# Altium integrated library TI Power Management Step-Down Regulator.IntLib: 531 symbols (part 14 of 32)
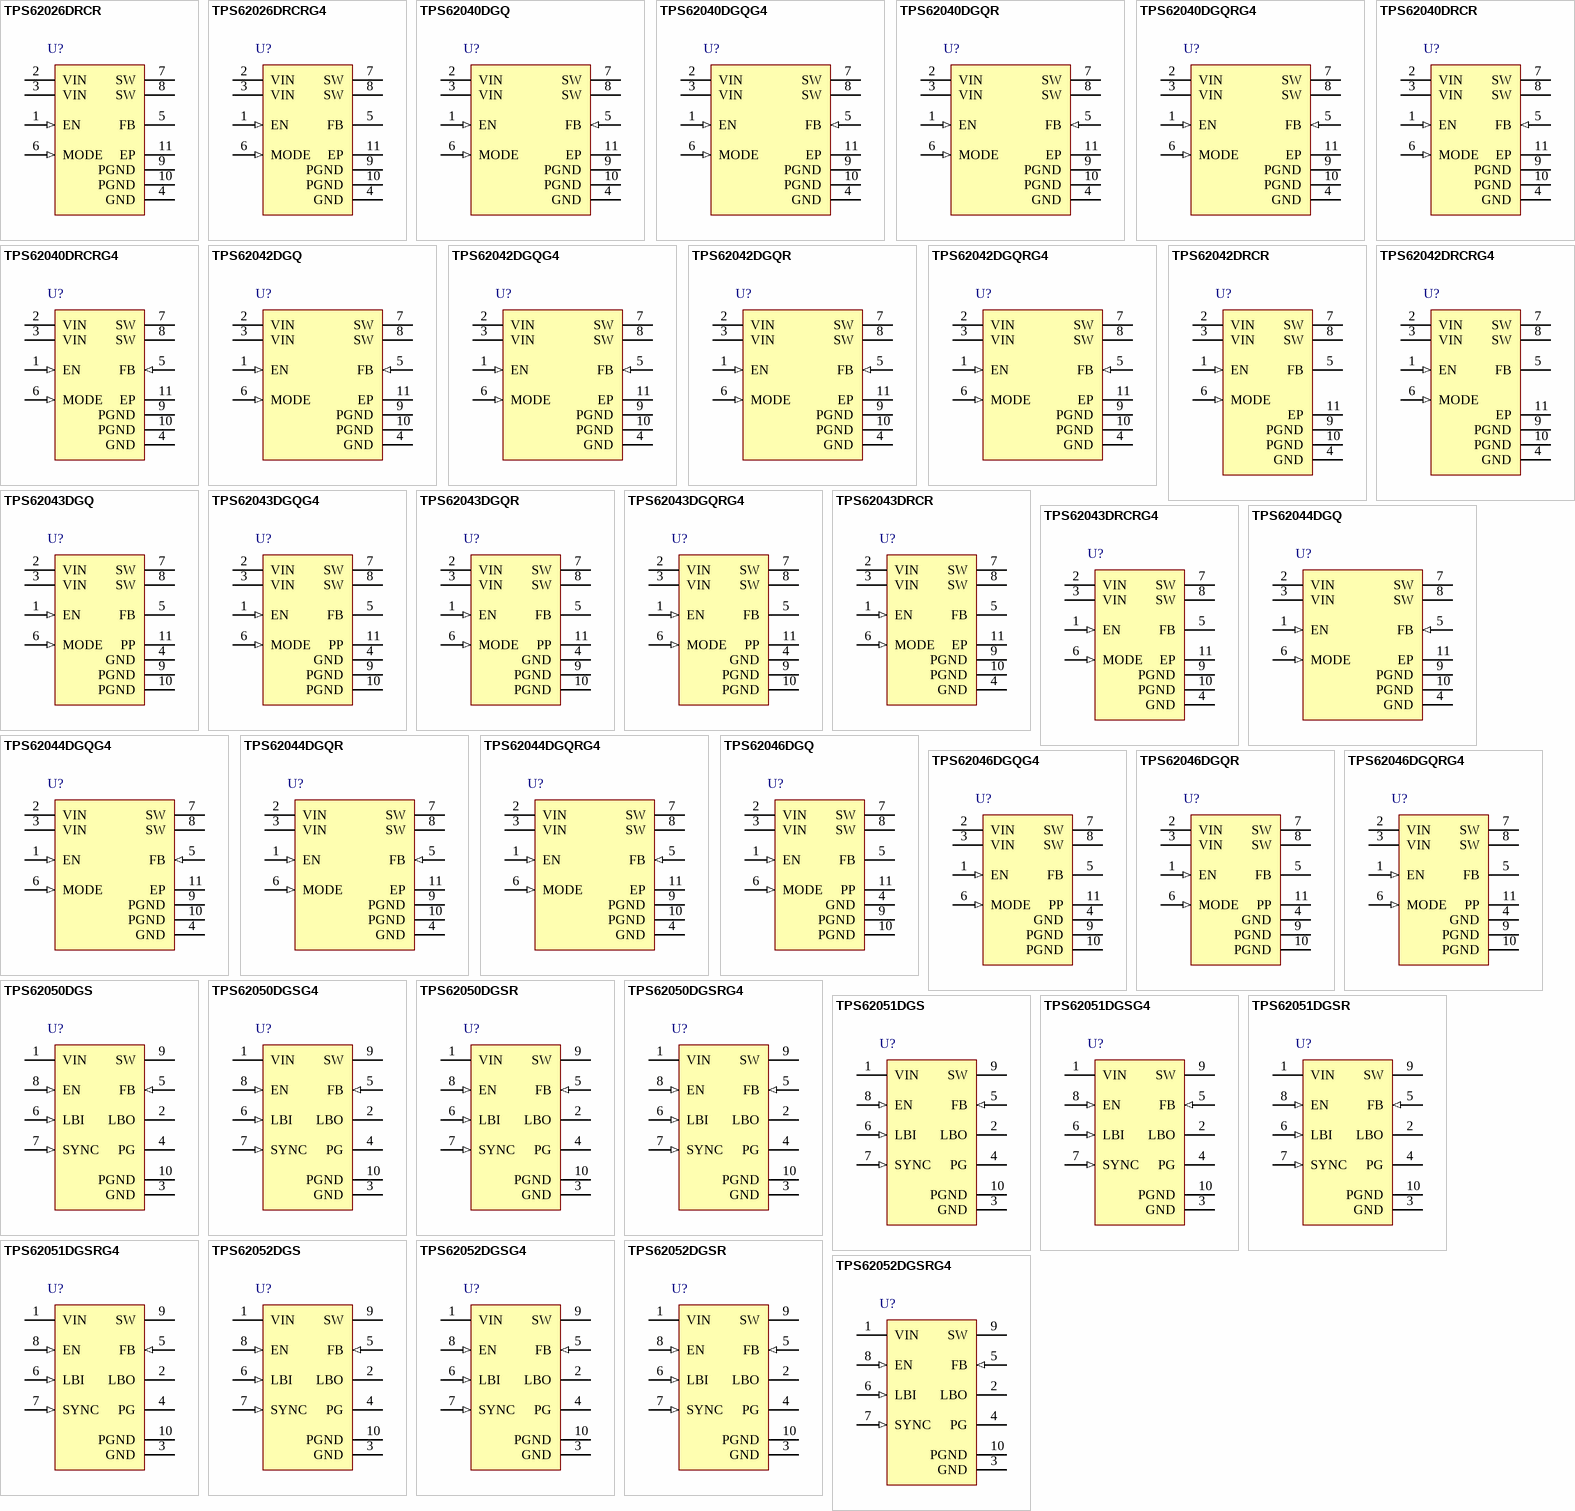
[diagram p31: symbols TPS62026DRCR to TPS62052DGSRG4]

## TPS62042DGQ
designator U?
Buck Step Down Regulator with 2.5 to 6 V Input and 1.5 V Output, -40 to 85 degC, 10-Pin MSOP-PowerPAD (DGQ), Green (RoHS & no Sb/Br); PartNumber: TPS62042DGQ; Manufacturer: Texas Instruments; Duty Cycle(Max)(%): 100; Iout(Max)(A): 1.2; Iq(Typ)(mA): 0.018; Preset Vout(V): 1.5; Rating: Catalog; Regulated Outputs(#): 1; SubFamily: Step-Down Regulator; Switch Current Limit(Typ)(A): 2; Vin(Max)(V): 6; Vin(Min)(V): 2.5; DatasheetVersion: SLVS463B; PackageVersion: revF, Nov-2011; PackageReference: DGQ10-1675X1445TP; PackageDescription: 10-Pin PowerPAD Plastic Small Outline 0.5 mm Pitch, Exposed Pad; Supplier 1: Digi-Key; Supplier Part Number 1: 296-27022-5-ND; Supplier 2: Farnell; Supplier Part Number 2: 8457921; Supplier 3: Newark; Supplier Part Number 3: 73H4659; Supplier 4: Mouser; Supplier Part Number 4: 595-TPS62042DGQ; Eco-Plan: Green (RoHS & no Sb/Br); Topology: Buck; Vout(Max)(V): 1.5; Vout(Min)(V): 1.5; Mounting Technology: Surface Mount; Code_JEDEC: MO-187-BA-T; ComponentLink1Description: Datasheet; ComponentLink1URL: http://www.ti.com/general/docs/lit/getliterature.tsp?genericPartNumber=TPS62042&fileType=pdf; ComponentLink2Description: URL Link1; ComponentLink2URL: Samples URL:http://www.ti.com/product/tps62042#samples
footprint DGQ10-1675X1445TP_N (TSSOP, 10-Leads, Body 3x3mm, Pitch 0.5mm, Thermal Pad 1.88x1.57mm, IPC Medium Density)
footprint DGQ10-1675X1445TP_L (TSSOP, 10-Leads, Body 3x3mm, Pitch 0.5mm, Thermal Pad 1.88x1.57mm, IPC High Density)
footprint DGQ10-1675X1445TP_M (TSSOP, 10-Leads, Body 3x3mm, Pitch 0.5mm, Thermal Pad 1.88x1.57mm, IPC Low Density)
pins: 1 EN (in) "Enable. Pulling EN to ground forces the device into shutdown mode. Pulling EN to VI enables the device. EN should not be left floating and must be terminated.", 2 VIN (power) "Supply voltage input", 3 VIN (power) "Supply voltage input", 4 GND (power) "Analog ground", 5 FB (in) "Feedback pin. Connect FB directly to the output if the fixed output voltage version is used. For the adjustable version an external resistor divider is connected to this pin. The internal voltage divider is disabled for the (See Datasheet)", 6 MODE (in) "Pulling the MODE pin high allows the device to be forced into fixed frequency operation. Pulling the MODE pin to low enables the power save mode where the device operates in fixed frequency PWM mode at high load currents and (See Datasheet)", 7 SW (power) "This is the switch pin of the converter and is connected to the drain of the internal power MOSFETs", 8 SW (power) "This is the switch pin of the converter and is connected to the drain of the internal power MOSFETs", 9 PGND (power) "Power ground", 10 PGND (power) "Power ground", 11 EP (power) "Exposed Thermal Pad"

## TPS62042DGQG4
designator U?
Buck Step Down Regulator with 2.5 to 6 V Input and 1.5 V Output, -40 to 85 degC, 10-Pin MSOP-PowerPAD (DGQ), Green (RoHS & no Sb/Br); PartNumber: TPS62042DGQG4; Manufacturer: Texas Instruments; Duty Cycle(Max)(%): 100; Iout(Max)(A): 1.2; Iq(Typ)(mA): 0.018; Preset Vout(V): 1.5; Rating: Catalog; Regulated Outputs(#): 1; SubFamily: Step-Down Regulator; Switch Current Limit(Typ)(A): 2; Vin(Max)(V): 6; Vin(Min)(V): 2.5; DatasheetVersion: SLVS463B; PackageVersion: revF, Nov-2011; PackageReference: DGQ10-1675X1445TP; PackageDescription: 10-Pin PowerPAD Plastic Small Outline 0.5 mm Pitch, Exposed Pad; Supplier 1: Digi-Key; Supplier Part Number 1: TPS62042DGQG4-ND; Supplier 2: Newark; Supplier Part Number 2: 71J8197; Supplier 3: Mouser; Supplier Part Number 3: 595-TPS62042DGQG4; Eco-Plan: Green (RoHS & no Sb/Br); Topology: Buck; Vout(Max)(V): 1.5; Vout(Min)(V): 1.5; Mounting Technology: Surface Mount; Code_JEDEC: MO-187-BA-T; ComponentLink1Description: Datasheet; ComponentLink1URL: http://www.ti.com/general/docs/lit/getliterature.tsp?genericPartNumber=TPS62042&fileType=pdf; ComponentLink2Description: URL Link1; ComponentLink2URL: Samples URL:http://www.ti.com/product/tps62042#samples
footprint DGQ10-1675X1445TP_N (TSSOP, 10-Leads, Body 3x3mm, Pitch 0.5mm, Thermal Pad 1.88x1.57mm, IPC Medium Density)
footprint DGQ10-1675X1445TP_L (TSSOP, 10-Leads, Body 3x3mm, Pitch 0.5mm, Thermal Pad 1.88x1.57mm, IPC High Density)
footprint DGQ10-1675X1445TP_M (TSSOP, 10-Leads, Body 3x3mm, Pitch 0.5mm, Thermal Pad 1.88x1.57mm, IPC Low Density)
pins: 1 EN (in) "Enable. Pulling EN to ground forces the device into shutdown mode. Pulling EN to VI enables the device. EN should not be left floating and must be terminated.", 2 VIN (power) "Supply voltage input", 3 VIN (power) "Supply voltage input", 4 GND (power) "Analog ground", 5 FB (in) "Feedback pin. Connect FB directly to the output if the fixed output voltage version is used. For the adjustable version an external resistor divider is connected to this pin. The internal voltage divider is disabled for the (See Datasheet)", 6 MODE (in) "Pulling the MODE pin high allows the device to be forced into fixed frequency operation. Pulling the MODE pin to low enables the power save mode where the device operates in fixed frequency PWM mode at high load currents and (See Datasheet)", 7 SW (power) "This is the switch pin of the converter and is connected to the drain of the internal power MOSFETs", 8 SW (power) "This is the switch pin of the converter and is connected to the drain of the internal power MOSFETs", 9 PGND (power) "Power ground", 10 PGND (power) "Power ground", 11 EP (power) "Exposed Thermal Pad"

## TPS62042DGQR
designator U?
Buck Step Down Regulator with 2.5 to 6 V Input and 1.5 V Output, -40 to 85 degC, 10-Pin MSOP-PowerPAD (DGQ), Green (RoHS & no Sb/Br); PartNumber: TPS62042DGQR; Manufacturer: Texas Instruments; Duty Cycle(Max)(%): 100; Iout(Max)(A): 1.2; Iq(Typ)(mA): 0.018; Preset Vout(V): 1.5; Rating: Catalog; Regulated Outputs(#): 1; SubFamily: Step-Down Regulator; Switch Current Limit(Typ)(A): 2; Vin(Max)(V): 6; Vin(Min)(V): 2.5; DatasheetVersion: SLVS463B; PackageVersion: revF, Nov-2011; PackageReference: DGQ10-1675X1445TP; PackageDescription: 10-Pin PowerPAD Plastic Small Outline 0.5 mm Pitch, Exposed Pad; Supplier 1: Digi-Key; Supplier Part Number 1: 296-15220-2-ND; Supplier 2: Digi-Key; Supplier Part Number 2: 296-15220-1-ND; Supplier 3: Digi-Key; Supplier Part Number 3: 296-15220-6-ND; Supplier 4: Newark; Supplier Part Number 4: 73H4660; Supplier 5: Mouser; Supplier Part Number 5: 595-TPS62042DGQR; Eco-Plan: Green (RoHS & no Sb/Br); Topology: Buck; Vout(Max)(V): 1.5; Vout(Min)(V): 1.5; Mounting Technology: Surface Mount; Code_JEDEC: MO-187-BA-T; ComponentLink1Description: Datasheet; ComponentLink1URL: http://www.ti.com/general/docs/lit/getliterature.tsp?genericPartNumber=TPS62042&fileType=pdf; ComponentLink2Description: URL Link1; ComponentLink2URL: Samples URL:http://www.ti.com/product/tps62042#samples
footprint DGQ10-1675X1445TP_N (TSSOP, 10-Leads, Body 3x3mm, Pitch 0.5mm, Thermal Pad 1.88x1.57mm, IPC Medium Density)
footprint DGQ10-1675X1445TP_L (TSSOP, 10-Leads, Body 3x3mm, Pitch 0.5mm, Thermal Pad 1.88x1.57mm, IPC High Density)
footprint DGQ10-1675X1445TP_M (TSSOP, 10-Leads, Body 3x3mm, Pitch 0.5mm, Thermal Pad 1.88x1.57mm, IPC Low Density)
pins: 1 EN (in) "Enable. Pulling EN to ground forces the device into shutdown mode. Pulling EN to VI enables the device. EN should not be left floating and must be terminated.", 2 VIN (power) "Supply voltage input", 3 VIN (power) "Supply voltage input", 4 GND (power) "Analog ground", 5 FB (in) "Feedback pin. Connect FB directly to the output if the fixed output voltage version is used. For the adjustable version an external resistor divider is connected to this pin. The internal voltage divider is disabled for the (See Datasheet)", 6 MODE (in) "Pulling the MODE pin high allows the device to be forced into fixed frequency operation. Pulling the MODE pin to low enables the power save mode where the device operates in fixed frequency PWM mode at high load currents and (See Datasheet)", 7 SW (power) "This is the switch pin of the converter and is connected to the drain of the internal power MOSFETs", 8 SW (power) "This is the switch pin of the converter and is connected to the drain of the internal power MOSFETs", 9 PGND (power) "Power ground", 10 PGND (power) "Power ground", 11 EP (power) "Exposed Thermal Pad"

## TPS62042DGQRG4
designator U?
Buck Step Down Regulator with 2.5 to 6 V Input and 1.5 V Output, -40 to 85 degC, 10-Pin MSOP-PowerPAD (DGQ), Green (RoHS & no Sb/Br); PartNumber: TPS62042DGQRG4; Manufacturer: Texas Instruments; Duty Cycle(Max)(%): 100; Iout(Max)(A): 1.2; Iq(Typ)(mA): 0.018; Preset Vout(V): 1.5; Rating: Catalog; Regulated Outputs(#): 1; SubFamily: Step-Down Regulator; Switch Current Limit(Typ)(A): 2; Vin(Max)(V): 6; Vin(Min)(V): 2.5; DatasheetVersion: SLVS463B; PackageVersion: revF, Nov-2011; PackageReference: DGQ10-1675X1445TP; PackageDescription: 10-Pin PowerPAD Plastic Small Outline 0.5 mm Pitch, Exposed Pad; Supplier 1: Digi-Key; Supplier Part Number 1: TPS62042DGQRG4-ND; Supplier 2: Newark; Supplier Part Number 2: 65J6918; Supplier 3: Mouser; Supplier Part Number 3: 595-TPS62042DGQRG4; Eco-Plan: Green (RoHS & no Sb/Br); Topology: Buck; Vout(Max)(V): 1.5; Vout(Min)(V): 1.5; Mounting Technology: Surface Mount; Code_JEDEC: MO-187-BA-T; ComponentLink1Description: Datasheet; ComponentLink1URL: http://www.ti.com/general/docs/lit/getliterature.tsp?genericPartNumber=TPS62042&fileType=pdf; ComponentLink2Description: URL Link1; ComponentLink2URL: Samples URL:http://www.ti.com/product/tps62042#samples
footprint DGQ10-1675X1445TP_N (TSSOP, 10-Leads, Body 3x3mm, Pitch 0.5mm, Thermal Pad 1.88x1.57mm, IPC Medium Density)
footprint DGQ10-1675X1445TP_L (TSSOP, 10-Leads, Body 3x3mm, Pitch 0.5mm, Thermal Pad 1.88x1.57mm, IPC High Density)
footprint DGQ10-1675X1445TP_M (TSSOP, 10-Leads, Body 3x3mm, Pitch 0.5mm, Thermal Pad 1.88x1.57mm, IPC Low Density)
pins: 1 EN (in) "Enable. Pulling EN to ground forces the device into shutdown mode. Pulling EN to VI enables the device. EN should not be left floating and must be terminated.", 2 VIN (power) "Supply voltage input", 3 VIN (power) "Supply voltage input", 4 GND (power) "Analog ground", 5 FB (in) "Feedback pin. Connect FB directly to the output if the fixed output voltage version is used. For the adjustable version an external resistor divider is connected to this pin. The internal voltage divider is disabled for the (See Datasheet)", 6 MODE (in) "Pulling the MODE pin high allows the device to be forced into fixed frequency operation. Pulling the MODE pin to low enables the power save mode where the device operates in fixed frequency PWM mode at high load currents and (See Datasheet)", 7 SW (power) "This is the switch pin of the converter and is connected to the drain of the internal power MOSFETs", 8 SW (power) "This is the switch pin of the converter and is connected to the drain of the internal power MOSFETs", 9 PGND (power) "Power ground", 10 PGND (power) "Power ground", 11 EP (power) "Exposed Thermal Pad"

## TPS62042DRCR
designator U?
Buck Step Down Regulator with 2.5 to 6 V Input and 1.5 V Output, -40 to 85 degC, 10-Pin SON (DRC), Green (RoHS & no Sb/Br); PartNumber: TPS62042DRCR; Manufacturer: Texas Instruments; Duty Cycle(Max)(%): 100; Iout(Max)(A): 1.2; Iq(Typ)(mA): 0.018; Preset Vout(V): 1.5; Rating: Catalog; Regulated Outputs(#): 1; SubFamily: Step-Down Regulator; Switch Current Limit(Typ)(A): 2; Vin(Max)(V): 6; Vin(Min)(V): 2.5; DatasheetVersion: SLVS463B; PackageVersion: revL, Sep-2011; PackageReference: DRC10-2400X1650TP; PackageDescription: 10-Pin Plastic Small Outline No-Lead, 3 x 3 x 1 mm Body, 0.5 mm Pitch, Exposed Pad; Supplier 1: Digi-Key; Supplier Part Number 1: 296-15899-2-ND; Supplier 2: Digi-Key; Supplier Part Number 2: 296-15899-1-ND; Supplier 3: Digi-Key; Supplier Part Number 3: 296-15899-6-ND; Supplier 4: Newark; Supplier Part Number 4: 87H2902; Supplier 5: Mouser; Supplier Part Number 5: 595-TPS62042DRCR; Eco-Plan: Green (RoHS & no Sb/Br); Topology: Buck; Vout(Max)(V): 1.5; Vout(Min)(V): 1.5; Mounting Technology: Surface Mount; ComponentLink1Description: Datasheet; ComponentLink1URL: http://www.ti.com/general/docs/lit/getliterature.tsp?genericPartNumber=TPS62042&fileType=pdf; ComponentLink2Description: URL Link1; ComponentLink2URL: Samples URL:http://www.ti.com/product/tps62042#samples
footprint DRC10-2400X1650TP (SON, 10-Leads, Body 3x3mm, Pitch 0.5mm, Thermal Pad 2.4x1.65mm, TI Recommended)
pins: 1 EN (in) "Enable. Pulling EN to ground forces the device into shutdown mode. Pulling EN to VI enables the device. EN should not be left floating and must be terminated.", 2 VIN (power) "Supply voltage input", 3 VIN (power) "Supply voltage input", 4 GND (power) "Analog ground", 5 FB "Feedback pin. Connect FB directly to the output if the fixed output voltage version is used. For the adjustable version an external resistor divider is connected to this pin. The internal voltage divider is disabled for the (See Datasheet)", 6 MODE (in) "Pulling the MODE pin high allows the device to be forced into fixed frequency operation. Pulling the MODE pin to low enables the power save mode where the device operates in fixed frequency PWM mode at high load currents and (See Datasheet)", 7 SW (power) "This is the switch pin of the converter and is connected to the drain of the internal power MOSFETs", 8 SW (power) "This is the switch pin of the converter and is connected to the drain of the internal power MOSFETs", 9 PGND (power) "Power ground", 10 PGND (power) "Power ground", 11 EP "Exposed Thermal Pad"

## TPS62042DRCRG4
designator U?
Buck Step Down Regulator with 2.5 to 6 V Input and 1.5 V Output, -40 to 85 degC, 10-Pin SON (DRC), Green (RoHS & no Sb/Br); PartNumber: TPS62042DRCRG4; Manufacturer: Texas Instruments; Duty Cycle(Max)(%): 100; Iout(Max)(A): 1.2; Iq(Typ)(mA): 0.018; Preset Vout(V): 1.5; Rating: Catalog; Regulated Outputs(#): 1; SubFamily: Step-Down Regulator; Switch Current Limit(Typ)(A): 2; Vin(Max)(V): 6; Vin(Min)(V): 2.5; DatasheetVersion: SLVS463B; PackageVersion: revL, Sep-2011; PackageReference: DRC10-2400X1650TP; PackageDescription: 10-Pin Plastic Small Outline No-Lead, 3 x 3 x 1 mm Body, 0.5 mm Pitch, Exposed Pad; Supplier 1: Digi-Key; Supplier Part Number 1: TPS62042DRCRG4-ND; Supplier 2: Newark; Supplier Part Number 2: 28K5733; Supplier 3: Mouser; Supplier Part Number 3: 595-TPS62042DRCRG4; Eco-Plan: Green (RoHS & no Sb/Br); Topology: Buck; Vout(Max)(V): 1.5; Vout(Min)(V): 1.5; Mounting Technology: Surface Mount; ComponentLink1Description: Datasheet; ComponentLink1URL: http://www.ti.com/general/docs/lit/getliterature.tsp?genericPartNumber=TPS62042&fileType=pdf; ComponentLink2Description: URL Link1; ComponentLink2URL: Samples URL:http://www.ti.com/product/tps54611#samples
footprint DRC10-2400X1650TP (SON, 10-Leads, Body 3x3mm, Pitch 0.5mm, Thermal Pad 2.4x1.65mm, TI Recommended)
pins: 1 EN (in) "Enable. Pulling EN to ground forces the device into shutdown mode. Pulling EN to VI enables the device. EN should not be left floating and must be terminated.", 2 VIN (power) "Supply voltage input", 3 VIN (power) "Supply voltage input", 4 GND (power) "Analog ground", 5 FB "Feedback pin. Connect FB directly to the output if the fixed output voltage version is used. For the adjustable version an external resistor divider is connected to this pin. The internal voltage divider is disabled for the (See Datasheet)", 6 MODE (in) "Pulling the MODE pin high allows the device to be forced into fixed frequency operation. Pulling the MODE pin to low enables the power save mode where the device operates in fixed frequency PWM mode at high load currents and (See Datasheet)", 7 SW (power) "This is the switch pin of the converter and is connected to the drain of the internal power MOSFETs", 8 SW (power) "This is the switch pin of the converter and is connected to the drain of the internal power MOSFETs", 9 PGND (power) "Power ground", 10 PGND (power) "Power ground", 11 EP "Exposed Thermal Pad"

## TPS62043DGQ
designator U?
Buck Step Down Regulator with 2.5 to 6 V Input and 1.6 V Output, -40 to 85 degC, 10-Pin MSOP-PowerPAD (DGQ), Green (RoHS & no Sb/Br); PartNumber: TPS62043DGQ; Manufacturer: Texas Instruments; Duty Cycle(Max)(%): 100; Iout(Max)(A): 1.2; Iq(Typ)(mA): 0.018; Preset Vout(V): 1.6; Rating: Catalog; Regulated Outputs(#): 1; SubFamily: Step-Down Regulator; Switch Current Limit(Typ)(A): 2; Vin(Max)(V): 6; Vin(Min)(V): 2.5; DatasheetVersion: SLVS463B; PackageVersion: revF, Nov-2011; PackageReference: DGQ10-1675X1445TP; PackageDescription: 10-Pin PowerPAD Plastic Small Outline 0.5 mm Pitch, Exposed Pad; Supplier 1: Digi-Key; Supplier Part Number 1: 296-34635-5-ND; Supplier 2: Newark; Supplier Part Number 2: 73H4661; Supplier 3: Mouser; Supplier Part Number 3: 595-TPS62043DGQ; Eco-Plan: Green (RoHS & no Sb/Br); Topology: Buck; Vout(Max)(V): 1.6; Vout(Min)(V): 1.6; Mounting Technology: Surface Mount; Code_JEDEC: MO-187-BA-T; ComponentLink1Description: Datasheet; ComponentLink1URL: http://www.ti.com/general/docs/lit/getliterature.tsp?genericPartNumber=TPS62043&fileType=pdf; ComponentLink2Description: URL Link1; ComponentLink2URL: Samples URL:http://www.ti.com/product/tps62043#samples
footprint DGQ10-1675X1445TP_N (TSSOP, 10-Leads, Body 3x3mm, Pitch 0.5mm, Thermal Pad 1.88x1.57mm, IPC Medium Density)
footprint DGQ10-1675X1445TP_L (TSSOP, 10-Leads, Body 3x3mm, Pitch 0.5mm, Thermal Pad 1.88x1.57mm, IPC High Density)
footprint DGQ10-1675X1445TP_M (TSSOP, 10-Leads, Body 3x3mm, Pitch 0.5mm, Thermal Pad 1.88x1.57mm, IPC Low Density)
pins: 1 EN (in) "Enable. Pulling EN to ground forces the device into shutdown mode. Pulling EN to VI enables the device. EN should not be left floating and must be terminated.", 2 VIN (power) "Supply voltage input.", 3 VIN (power) "Supply voltage input.", 4 GND (power) "Analog ground.", 5 FB "Feedback pin. Connect FB directly to the output if the fixed output voltage version is used. For the adjustable version an external resistor divider is connected to this pin. The internal voltage divider is disabled for the (See Datasheet)", 6 MODE (in) "Pulling the MODE pin high allows the device to be forced into fixed frequency operation. Pulling the MODE pin to low enables the power save mode where the device operates in fixed frequency PWM mode at high load currents and (See Datasheet)", 7 SW (power) "This is the switch pin of the converter and is connected to the drain of the internal power MOSFETs.", 8 SW (power) "This is the switch pin of the converter and is connected to the drain of the internal power MOSFETs.", 9 PGND (power) "Power ground.", 10 PGND (power) "Power ground.", 11 PP (power) "The PowerPAD must be connected to GND."

## TPS62043DGQG4
designator U?
Buck Step Down Regulator with 2.5 to 6 V Input and 1.6 V Output, -40 to 85 degC, 10-Pin MSOP-PowerPAD (DGQ), Green (RoHS & no Sb/Br); PartNumber: TPS62043DGQG4; Manufacturer: Texas Instruments; Duty Cycle(Max)(%): 100; Iout(Max)(A): 1.2; Iq(Typ)(mA): 0.018; Preset Vout(V): 1.6; Rating: Catalog; Regulated Outputs(#): 1; SubFamily: Step-Down Regulator; Switch Current Limit(Typ)(A): 2; Vin(Max)(V): 6; Vin(Min)(V): 2.5; DatasheetVersion: SLVS463B; PackageVersion: revF, Nov-2011; PackageReference: DGQ10-1675X1445TP; PackageDescription: 10-Pin PowerPAD Plastic Small Outline 0.5 mm Pitch, Exposed Pad; Supplier 1: Digi-Key; Supplier Part Number 1: TPS62043DGQG4-ND; Supplier 2: Newark; Supplier Part Number 2: 80K3417; Supplier 3: Mouser; Supplier Part Number 3: 595-TPS62043DGQG4; Eco-Plan: Green (RoHS & no Sb/Br); Topology: Buck; Vout(Max)(V): 1.6; Vout(Min)(V): 1.6; Mounting Technology: Surface Mount; Code_JEDEC: MO-187-BA-T; ComponentLink1Description: Datasheet; ComponentLink1URL: http://www.ti.com/general/docs/lit/getliterature.tsp?genericPartNumber=TPS62043&fileType=pdf; ComponentLink2Description: URL Link1; ComponentLink2URL: Samples URL:http://www.ti.com/product/tps62043#samples
footprint DGQ10-1675X1445TP_N (TSSOP, 10-Leads, Body 3x3mm, Pitch 0.5mm, Thermal Pad 1.88x1.57mm, IPC Medium Density)
footprint DGQ10-1675X1445TP_L (TSSOP, 10-Leads, Body 3x3mm, Pitch 0.5mm, Thermal Pad 1.88x1.57mm, IPC High Density)
footprint DGQ10-1675X1445TP_M (TSSOP, 10-Leads, Body 3x3mm, Pitch 0.5mm, Thermal Pad 1.88x1.57mm, IPC Low Density)
pins: 1 EN (in) "Enable. Pulling EN to ground forces the device into shutdown mode. Pulling EN to VI enables the device. EN should not be left floating and must be terminated.", 2 VIN (power) "Supply voltage input.", 3 VIN (power) "Supply voltage input.", 4 GND (power) "Analog ground.", 5 FB "Feedback pin. Connect FB directly to the output if the fixed output voltage version is used. For the adjustable version an external resistor divider is connected to this pin. The internal voltage divider is disabled for the (See Datasheet)", 6 MODE (in) "Pulling the MODE pin high allows the device to be forced into fixed frequency operation. Pulling the MODE pin to low enables the power save mode where the device operates in fixed frequency PWM mode at high load currents and (See Datasheet)", 7 SW (power) "This is the switch pin of the converter and is connected to the drain of the internal power MOSFETs.", 8 SW (power) "This is the switch pin of the converter and is connected to the drain of the internal power MOSFETs.", 9 PGND (power) "Power ground.", 10 PGND (power) "Power ground.", 11 PP (power) "The PowerPAD must be connected to GND."

## TPS62043DGQR
designator U?
Buck Step Down Regulator with 2.5 to 6 V Input and 1.6 V Output, -40 to 85 degC, 10-Pin MSOP-PowerPAD (DGQ), Green (RoHS & no Sb/Br); PartNumber: TPS62043DGQR; Manufacturer: Texas Instruments; Duty Cycle(Max)(%): 100; Iout(Max)(A): 1.2; Iq(Typ)(mA): 0.018; Preset Vout(V): 1.6; Rating: Catalog; Regulated Outputs(#): 1; SubFamily: Step-Down Regulator; Switch Current Limit(Typ)(A): 2; Vin(Max)(V): 6; Vin(Min)(V): 2.5; DatasheetVersion: SLVS463B; PackageVersion: revF, Nov-2011; PackageReference: DGQ10-1675X1445TP; PackageDescription: 10-Pin PowerPAD Plastic Small Outline 0.5 mm Pitch, Exposed Pad; Supplier 1: Digi-Key; Supplier Part Number 1: 296-15221-2-ND; Supplier 2: Digi-Key; Supplier Part Number 2: 296-15221-1-ND; Supplier 3: Digi-Key; Supplier Part Number 3: 296-15221-6-ND; Supplier 4: Newark; Supplier Part Number 4: 73H4662; Supplier 5: Mouser; Supplier Part Number 5: 595-TPS62043DGQR; Eco-Plan: Green (RoHS & no Sb/Br); Topology: Buck; Vout(Max)(V): 1.6; Vout(Min)(V): 1.6; Mounting Technology: Surface Mount; Code_JEDEC: MO-187-BA-T; ComponentLink1Description: Datasheet; ComponentLink1URL: http://www.ti.com/general/docs/lit/getliterature.tsp?genericPartNumber=TPS62043&fileType=pdf; ComponentLink2Description: URL Link1; ComponentLink2URL: Samples URL:http://www.ti.com/product/tps62043#samples
footprint DGQ10-1675X1445TP_N (TSSOP, 10-Leads, Body 3x3mm, Pitch 0.5mm, Thermal Pad 1.88x1.57mm, IPC Medium Density)
footprint DGQ10-1675X1445TP_L (TSSOP, 10-Leads, Body 3x3mm, Pitch 0.5mm, Thermal Pad 1.88x1.57mm, IPC High Density)
footprint DGQ10-1675X1445TP_M (TSSOP, 10-Leads, Body 3x3mm, Pitch 0.5mm, Thermal Pad 1.88x1.57mm, IPC Low Density)
pins: 1 EN (in) "Enable. Pulling EN to ground forces the device into shutdown mode. Pulling EN to VI enables the device. EN should not be left floating and must be terminated.", 2 VIN (power) "Supply voltage input.", 3 VIN (power) "Supply voltage input.", 4 GND (power) "Analog ground.", 5 FB "Feedback pin. Connect FB directly to the output if the fixed output voltage version is used. For the adjustable version an external resistor divider is connected to this pin. The internal voltage divider is disabled for the (See Datasheet)", 6 MODE (in) "Pulling the MODE pin high allows the device to be forced into fixed frequency operation. Pulling the MODE pin to low enables the power save mode where the device operates in fixed frequency PWM mode at high load currents and (See Datasheet)", 7 SW (power) "This is the switch pin of the converter and is connected to the drain of the internal power MOSFETs.", 8 SW (power) "This is the switch pin of the converter and is connected to the drain of the internal power MOSFETs.", 9 PGND (power) "Power ground.", 10 PGND (power) "Power ground.", 11 PP (power) "The PowerPAD must be connected to GND."

## TPS62043DGQRG4
designator U?
Buck Step Down Regulator with 2.5 to 6 V Input and 1.6 V Output, -40 to 85 degC, 10-Pin MSOP-PowerPAD (DGQ), Green (RoHS & no Sb/Br); PartNumber: TPS62043DGQRG4; Manufacturer: Texas Instruments; Duty Cycle(Max)(%): 100; Iout(Max)(A): 1.2; Iq(Typ)(mA): 0.018; Preset Vout(V): 1.6; Rating: Catalog; Regulated Outputs(#): 1; SubFamily: Step-Down Regulator; Switch Current Limit(Typ)(A): 2; Vin(Max)(V): 6; Vin(Min)(V): 2.5; DatasheetVersion: SLVS463B; PackageVersion: revF, Nov-2011; PackageReference: DGQ10-1675X1445TP; PackageDescription: 10-Pin PowerPAD Plastic Small Outline 0.5 mm Pitch, Exposed Pad; Supplier 1: Digi-Key; Supplier Part Number 1: TPS62043DGQRG4-ND; Supplier 2: Newark; Supplier Part Number 2: 66K4534; Supplier 3: Mouser; Supplier Part Number 3: 595-TPS62043DGQRG4; Eco-Plan: Green (RoHS & no Sb/Br); Topology: Buck; Vout(Max)(V): 1.6; Vout(Min)(V): 1.6; Mounting Technology: Surface Mount; Code_JEDEC: MO-187-BA-T; ComponentLink1Description: Datasheet; ComponentLink1URL: http://www.ti.com/general/docs/lit/getliterature.tsp?genericPartNumber=TPS62043&fileType=pdf; ComponentLink2Description: URL Link1; ComponentLink2URL: Samples URL:http://www.ti.com/product/tps62043#samples
footprint DGQ10-1675X1445TP_N (TSSOP, 10-Leads, Body 3x3mm, Pitch 0.5mm, Thermal Pad 1.88x1.57mm, IPC Medium Density)
footprint DGQ10-1675X1445TP_L (TSSOP, 10-Leads, Body 3x3mm, Pitch 0.5mm, Thermal Pad 1.88x1.57mm, IPC High Density)
footprint DGQ10-1675X1445TP_M (TSSOP, 10-Leads, Body 3x3mm, Pitch 0.5mm, Thermal Pad 1.88x1.57mm, IPC Low Density)
pins: 1 EN (in) "Enable. Pulling EN to ground forces the device into shutdown mode. Pulling EN to VI enables the device. EN should not be left floating and must be terminated.", 2 VIN (power) "Supply voltage input.", 3 VIN (power) "Supply voltage input.", 4 GND (power) "Analog ground.", 5 FB "Feedback pin. Connect FB directly to the output if the fixed output voltage version is used. For the adjustable version an external resistor divider is connected to this pin. The internal voltage divider is disabled for the (See Datasheet)", 6 MODE (in) "Pulling the MODE pin high allows the device to be forced into fixed frequency operation. Pulling the MODE pin to low enables the power save mode where the device operates in fixed frequency PWM mode at high load currents and (See Datasheet)", 7 SW (power) "This is the switch pin of the converter and is connected to the drain of the internal power MOSFETs.", 8 SW (power) "This is the switch pin of the converter and is connected to the drain of the internal power MOSFETs.", 9 PGND (power) "Power ground.", 10 PGND (power) "Power ground.", 11 PP (power) "The PowerPAD must be connected to GND."

## TPS62043DRCR
designator U?
Buck Step Down Regulator with 2.5 to 6 V Input and 1.6 V Output, -40 to 85 degC, 10-Pin SON (DRC), Green (RoHS & no Sb/Br); PartNumber: TPS62043DRCR; Manufacturer: Texas Instruments; Duty Cycle(Max)(%): 100; Iout(Max)(A): 1.2; Iq(Typ)(mA): 0.018; Preset Vout(V): 1.6; Rating: Catalog; Regulated Outputs(#): 1; SubFamily: Step-Down Regulator; Switch Current Limit(Typ)(A): 2; Vin(Max)(V): 6; Vin(Min)(V): 2.5; DatasheetVersion: SLVS463B; PackageVersion: revL, Sep-2011; PackageReference: DRC10-2400X1650TP; PackageDescription: 10-Pin Plastic Small Outline No-Lead, 3 x 3 x 1 mm Body, 0.5 mm Pitch, Exposed Pad; Supplier 1: Digi-Key; Supplier Part Number 1: 296-15900-2-ND; Supplier 2: Digi-Key; Supplier Part Number 2: 296-15900-1-ND; Supplier 3: Digi-Key; Supplier Part Number 3: 296-15900-6-ND; Supplier 4: Newark; Supplier Part Number 4: 87H2903; Supplier 5: Mouser; Supplier Part Number 5: 595-TPS62043DRCR; Eco-Plan: Green (RoHS & no Sb/Br); Topology: Buck; Vout(Max)(V): 1.6; Vout(Min)(V): 1.6; Mounting Technology: Surface Mount; ComponentLink1Description: Datasheet; ComponentLink1URL: http://www.ti.com/general/docs/lit/getliterature.tsp?genericPartNumber=TPS62043&fileType=pdf; ComponentLink2Description: URL Link1; ComponentLink2URL: Samples URL:http://www.ti.com/product/tps62043#samples
footprint DRC10-2400X1650TP (SON, 10-Leads, Body 3x3mm, Pitch 0.5mm, Thermal Pad 2.4x1.65mm, TI Recommended)
pins: 1 EN (in) "Enable. Pulling EN to ground forces the device into shutdown mode. Pulling EN to VI enables the device. EN should not be left floating and must be terminated.", 2 VIN (power) "Supply voltage input", 3 VIN (power) "Supply voltage input", 4 GND (power), 5 FB "Feedback pin. Connect FB directly to the output if the fixed output voltage version is used. For the adjustable version an external resistor divider is connected to this pin. The internal voltage divider is disabled for the (See Datasheet)", 6 MODE (in) "Pulling the MODE pin high allows the device to be forced into fixed frequency operation. Pulling the MODE pin to low enables the power save mode where the device operates in fixed frequency PWM mode at high load currents and (See Datasheet)", 7 SW (power) "This is the switch pin of the converter and is connected to the drain of the internal power MOSFETs", 8 SW (power) "This is the switch pin of the converter and is connected to the drain of the internal power MOSFETs", 9 PGND (power) "Power ground", 10 PGND (power) "Power ground", 11 EP "Exposed Thermal Pad"

## TPS62043DRCRG4
designator U?
Buck Step Down Regulator with 2.5 to 6 V Input and 1.6 V Output, -40 to 85 degC, 10-Pin SON (DRC), Green (RoHS & no Sb/Br); PartNumber: TPS62043DRCRG4; Manufacturer: Texas Instruments; Duty Cycle(Max)(%): 100; Iout(Max)(A): 1.2; Iq(Typ)(mA): 0.018; Preset Vout(V): 1.6; Rating: Catalog; Regulated Outputs(#): 1; SubFamily: Step-Down Regulator; Switch Current Limit(Typ)(A): 2; Vin(Max)(V): 6; Vin(Min)(V): 2.5; DatasheetVersion: SLVS463B; PackageVersion: revL, Sep-2011; PackageReference: DRC10-2400X1650TP; PackageDescription: 10-Pin Plastic Small Outline No-Lead, 3 x 3 x 1 mm Body, 0.5 mm Pitch, Exposed Pad; Supplier 1: Digi-Key; Supplier Part Number 1: TPS62043DRCRG4-ND; Supplier 2: Newark; Supplier Part Number 2: 67K8646; Supplier 3: Mouser; Supplier Part Number 3: 595-TPS62043DRCRG4; Eco-Plan: Green (RoHS & no Sb/Br); Topology: Buck; Vout(Max)(V): 1.6; Vout(Min)(V): 1.6; Mounting Technology: Surface Mount; ComponentLink1Description: Datasheet; ComponentLink1URL: http://www.ti.com/general/docs/lit/getliterature.tsp?genericPartNumber=TPS62043&fileType=pdf; ComponentLink2Description: URL Link1; ComponentLink2URL: Samples URL:http://www.ti.com/product/tps54611#samples
footprint DRC10-2400X1650TP (SON, 10-Leads, Body 3x3mm, Pitch 0.5mm, Thermal Pad 2.4x1.65mm, TI Recommended)
pins: 1 EN (in) "Enable. Pulling EN to ground forces the device into shutdown mode. Pulling EN to VI enables the device. EN should not be left floating and must be terminated.", 2 VIN (power) "Supply voltage input", 3 VIN (power) "Supply voltage input", 4 GND (power), 5 FB "Feedback pin. Connect FB directly to the output if the fixed output voltage version is used. For the adjustable version an external resistor divider is connected to this pin. The internal voltage divider is disabled for the (See Datasheet)", 6 MODE (in) "Pulling the MODE pin high allows the device to be forced into fixed frequency operation. Pulling the MODE pin to low enables the power save mode where the device operates in fixed frequency PWM mode at high load currents and (See Datasheet)", 7 SW (power) "This is the switch pin of the converter and is connected to the drain of the internal power MOSFETs", 8 SW (power) "This is the switch pin of the converter and is connected to the drain of the internal power MOSFETs", 9 PGND (power) "Power ground", 10 PGND (power) "Power ground", 11 EP "Exposed Thermal Pad"

## TPS62044DGQ
designator U?
Buck Step Down Regulator with 2.5 to 6 V Input and 1.8 V Output, -40 to 85 degC, 10-Pin MSOP-PowerPAD (DGQ), Green (RoHS & no Sb/Br); PartNumber: TPS62044DGQ; Manufacturer: Texas Instruments; Duty Cycle(Max)(%): 100; Iout(Max)(A): 1.2; Iq(Typ)(mA): 0.018; Preset Vout(V): 1.8; Rating: Catalog; Regulated Outputs(#): 1; SubFamily: Step-Down Regulator; Switch Current Limit(Typ)(A): 2; Vin(Max)(V): 6; Vin(Min)(V): 2.5; DatasheetVersion: SLVS463B; PackageVersion: revF, Nov-2011; PackageReference: DGQ10-1675X1445TP; PackageDescription: 10-Pin PowerPAD Plastic Small Outline 0.5 mm Pitch, Exposed Pad; Supplier 1: Digi-Key; Supplier Part Number 1: 296-34636-5-ND; Supplier 2: Farnell; Supplier Part Number 2: 8457930; Supplier 3: Newark; Supplier Part Number 3: 73H4663; Supplier 4: Mouser; Supplier Part Number 4: 595-TPS62044DGQ; Eco-Plan: Green (RoHS & no Sb/Br); Topology: Buck; Vout(Max)(V): 1.8; Vout(Min)(V): 1.8; Mounting Technology: Surface Mount; Code_JEDEC: MO-187-BA-T; ComponentLink1Description: Datasheet; ComponentLink1URL: http://www.ti.com/general/docs/lit/getliterature.tsp?genericPartNumber=TPS62044&fileType=pdf; ComponentLink2Description: URL Link1; ComponentLink2URL: Samples URL:http://www.ti.com/product/tps62044#samples
footprint DGQ10-1675X1445TP_N (TSSOP, 10-Leads, Body 3x3mm, Pitch 0.5mm, Thermal Pad 1.88x1.57mm, IPC Medium Density)
footprint DGQ10-1675X1445TP_L (TSSOP, 10-Leads, Body 3x3mm, Pitch 0.5mm, Thermal Pad 1.88x1.57mm, IPC High Density)
footprint DGQ10-1675X1445TP_M (TSSOP, 10-Leads, Body 3x3mm, Pitch 0.5mm, Thermal Pad 1.88x1.57mm, IPC Low Density)
pins: 1 EN (in) "Enable. Pulling EN to ground forces the device into shutdown mode. Pulling EN to VI enables the device. EN should not be left floating and must be terminated.", 2 VIN (power) "Supply voltage input", 3 VIN (power) "Supply voltage input", 4 GND (power) "Analog ground", 5 FB (in) "Feedback pin. Connect FB directly to the output if the fixed output voltage version is used. For the adjustable version an external resistor divider is connected to this pin. The internal voltage divider is disabled for the (See Datasheet)", 6 MODE (in) "Pulling the MODE pin high allows the device to be forced into fixed frequency operation. Pulling the MODE pin to low enables the power save mode where the device operates in fixed frequency PWM mode at high load currents and (See Datasheet)", 7 SW (power) "This is the switch pin of the converter and is connected to the drain of the internal power MOSFETs", 8 SW (power) "This is the switch pin of the converter and is connected to the drain of the internal power MOSFETs", 9 PGND (power) "Power ground", 10 PGND (power) "Power ground", 11 EP (power) "Exposed Thermal Pad"

## TPS62044DGQG4
designator U?
Buck Step Down Regulator with 2.5 to 6 V Input and 1.8 V Output, -40 to 85 degC, 10-Pin MSOP-PowerPAD (DGQ), Green (RoHS & no Sb/Br); PartNumber: TPS62044DGQG4; Manufacturer: Texas Instruments; Duty Cycle(Max)(%): 100; Iout(Max)(A): 1.2; Iq(Typ)(mA): 0.018; Preset Vout(V): 1.8; Rating: Catalog; Regulated Outputs(#): 1; SubFamily: Step-Down Regulator; Switch Current Limit(Typ)(A): 2; Vin(Max)(V): 6; Vin(Min)(V): 2.5; DatasheetVersion: SLVS463B; PackageVersion: revF, Nov-2011; PackageReference: DGQ10-1675X1445TP; PackageDescription: 10-Pin PowerPAD Plastic Small Outline 0.5 mm Pitch, Exposed Pad; Supplier 1: Digi-Key; Supplier Part Number 1: TPS62044DGQG4-ND; Supplier 2: Newark; Supplier Part Number 2: 71J8198; Supplier 3: Mouser; Supplier Part Number 3: 595-TPS62044DGQG4; Eco-Plan: Green (RoHS & no Sb/Br); Topology: Buck; Vout(Max)(V): 1.8; Vout(Min)(V): 1.8; Mounting Technology: Surface Mount; Code_JEDEC: MO-187-BA-T; ComponentLink1Description: Datasheet; ComponentLink1URL: http://www.ti.com/general/docs/lit/getliterature.tsp?genericPartNumber=TPS62044&fileType=pdf; ComponentLink2Description: URL Link1; ComponentLink2URL: Samples URL:http://www.ti.com/product/tps62044#samples
footprint DGQ10-1675X1445TP_N (TSSOP, 10-Leads, Body 3x3mm, Pitch 0.5mm, Thermal Pad 1.88x1.57mm, IPC Medium Density)
footprint DGQ10-1675X1445TP_L (TSSOP, 10-Leads, Body 3x3mm, Pitch 0.5mm, Thermal Pad 1.88x1.57mm, IPC High Density)
footprint DGQ10-1675X1445TP_M (TSSOP, 10-Leads, Body 3x3mm, Pitch 0.5mm, Thermal Pad 1.88x1.57mm, IPC Low Density)
pins: 1 EN (in) "Enable. Pulling EN to ground forces the device into shutdown mode. Pulling EN to VI enables the device. EN should not be left floating and must be terminated.", 2 VIN (power) "Supply voltage input", 3 VIN (power) "Supply voltage input", 4 GND (power) "Analog ground", 5 FB (in) "Feedback pin. Connect FB directly to the output if the fixed output voltage version is used. For the adjustable version an external resistor divider is connected to this pin. The internal voltage divider is disabled for the (See Datasheet)", 6 MODE (in) "Pulling the MODE pin high allows the device to be forced into fixed frequency operation. Pulling the MODE pin to low enables the power save mode where the device operates in fixed frequency PWM mode at high load currents and (See Datasheet)", 7 SW (power) "This is the switch pin of the converter and is connected to the drain of the internal power MOSFETs", 8 SW (power) "This is the switch pin of the converter and is connected to the drain of the internal power MOSFETs", 9 PGND (power) "Power ground", 10 PGND (power) "Power ground", 11 EP (power) "Exposed Thermal Pad"

## TPS62044DGQR
designator U?
Buck Step Down Regulator with 2.5 to 6 V Input and 1.8 V Output, -40 to 85 degC, 10-Pin MSOP-PowerPAD (DGQ), Green (RoHS & no Sb/Br); PartNumber: TPS62044DGQR; Manufacturer: Texas Instruments; Duty Cycle(Max)(%): 100; Iout(Max)(A): 1.2; Iq(Typ)(mA): 0.018; Preset Vout(V): 1.8; Rating: Catalog; Regulated Outputs(#): 1; SubFamily: Step-Down Regulator; Switch Current Limit(Typ)(A): 2; Vin(Max)(V): 6; Vin(Min)(V): 2.5; DatasheetVersion: SLVS463B; PackageVersion: revF, Nov-2011; PackageReference: DGQ10-1675X1445TP; PackageDescription: 10-Pin PowerPAD Plastic Small Outline 0.5 mm Pitch, Exposed Pad; Supplier 1: Digi-Key; Supplier Part Number 1: 296-15222-2-ND; Supplier 2: Digi-Key; Supplier Part Number 2: 296-15222-1-ND; Supplier 3: Digi-Key; Supplier Part Number 3: 296-15222-6-ND; Supplier 4: Newark; Supplier Part Number 4: 73H4664; Supplier 5: Mouser; Supplier Part Number 5: 595-TPS62044DGQR; Eco-Plan: Green (RoHS & no Sb/Br); Topology: Buck; Vout(Max)(V): 1.8; Vout(Min)(V): 1.8; Mounting Technology: Surface Mount; Code_JEDEC: MO-187-BA-T; ComponentLink1Description: Datasheet; ComponentLink1URL: http://www.ti.com/general/docs/lit/getliterature.tsp?genericPartNumber=TPS62044&fileType=pdf; ComponentLink2Description: URL Link1; ComponentLink2URL: Samples URL:http://www.ti.com/product/tps62044#samples
footprint DGQ10-1675X1445TP_N (TSSOP, 10-Leads, Body 3x3mm, Pitch 0.5mm, Thermal Pad 1.88x1.57mm, IPC Medium Density)
footprint DGQ10-1675X1445TP_L (TSSOP, 10-Leads, Body 3x3mm, Pitch 0.5mm, Thermal Pad 1.88x1.57mm, IPC High Density)
footprint DGQ10-1675X1445TP_M (TSSOP, 10-Leads, Body 3x3mm, Pitch 0.5mm, Thermal Pad 1.88x1.57mm, IPC Low Density)
pins: 1 EN (in) "Enable. Pulling EN to ground forces the device into shutdown mode. Pulling EN to VI enables the device. EN should not be left floating and must be terminated.", 2 VIN (power) "Supply voltage input", 3 VIN (power) "Supply voltage input", 4 GND (power) "Analog ground", 5 FB (in) "Feedback pin. Connect FB directly to the output if the fixed output voltage version is used. For the adjustable version an external resistor divider is connected to this pin. The internal voltage divider is disabled for the (See Datasheet)", 6 MODE (in) "Pulling the MODE pin high allows the device to be forced into fixed frequency operation. Pulling the MODE pin to low enables the power save mode where the device operates in fixed frequency PWM mode at high load currents and (See Datasheet)", 7 SW (power) "This is the switch pin of the converter and is connected to the drain of the internal power MOSFETs", 8 SW (power) "This is the switch pin of the converter and is connected to the drain of the internal power MOSFETs", 9 PGND (power) "Power ground", 10 PGND (power) "Power ground", 11 EP (power) "Exposed Thermal Pad"

## TPS62044DGQRG4
designator U?
Buck Step Down Regulator with 2.5 to 6 V Input and 1.8 V Output, -40 to 85 degC, 10-Pin MSOP-PowerPAD (DGQ), Green (RoHS & no Sb/Br); PartNumber: TPS62044DGQRG4; Manufacturer: Texas Instruments; Duty Cycle(Max)(%): 100; Iout(Max)(A): 1.2; Iq(Typ)(mA): 0.018; Preset Vout(V): 1.8; Rating: Catalog; Regulated Outputs(#): 1; SubFamily: Step-Down Regulator; Switch Current Limit(Typ)(A): 2; Vin(Max)(V): 6; Vin(Min)(V): 2.5; DatasheetVersion: SLVS463B; PackageVersion: revF, Nov-2011; PackageReference: DGQ10-1675X1445TP; PackageDescription: 10-Pin PowerPAD Plastic Small Outline 0.5 mm Pitch, Exposed Pad; Supplier 1: Digi-Key; Supplier Part Number 1: TPS62044DGQRG4-ND; Supplier 2: Newark; Supplier Part Number 2: 65J6919; Supplier 3: Mouser; Supplier Part Number 3: 595-TPS62044DGQRG4; Eco-Plan: Green (RoHS & no Sb/Br); Topology: Buck; Vout(Max)(V): 1.8; Vout(Min)(V): 1.8; Mounting Technology: Surface Mount; Code_JEDEC: MO-187-BA-T; ComponentLink1Description: Datasheet; ComponentLink1URL: http://www.ti.com/general/docs/lit/getliterature.tsp?genericPartNumber=TPS62044&fileType=pdf; ComponentLink2Description: URL Link1; ComponentLink2URL: Samples URL:http://www.ti.com/product/tps62044#samples
footprint DGQ10-1675X1445TP_N (TSSOP, 10-Leads, Body 3x3mm, Pitch 0.5mm, Thermal Pad 1.88x1.57mm, IPC Medium Density)
footprint DGQ10-1675X1445TP_L (TSSOP, 10-Leads, Body 3x3mm, Pitch 0.5mm, Thermal Pad 1.88x1.57mm, IPC High Density)
footprint DGQ10-1675X1445TP_M (TSSOP, 10-Leads, Body 3x3mm, Pitch 0.5mm, Thermal Pad 1.88x1.57mm, IPC Low Density)
pins: 1 EN (in) "Enable. Pulling EN to ground forces the device into shutdown mode. Pulling EN to VI enables the device. EN should not be left floating and must be terminated.", 2 VIN (power) "Supply voltage input", 3 VIN (power) "Supply voltage input", 4 GND (power) "Analog ground", 5 FB (in) "Feedback pin. Connect FB directly to the output if the fixed output voltage version is used. For the adjustable version an external resistor divider is connected to this pin. The internal voltage divider is disabled for the (See Datasheet)", 6 MODE (in) "Pulling the MODE pin high allows the device to be forced into fixed frequency operation. Pulling the MODE pin to low enables the power save mode where the device operates in fixed frequency PWM mode at high load currents and (See Datasheet)", 7 SW (power) "This is the switch pin of the converter and is connected to the drain of the internal power MOSFETs", 8 SW (power) "This is the switch pin of the converter and is connected to the drain of the internal power MOSFETs", 9 PGND (power) "Power ground", 10 PGND (power) "Power ground", 11 EP (power) "Exposed Thermal Pad"

## TPS62046DGQ
designator U?
Buck Step Down Regulator with 2.5 to 6 V Input and 3.3 V Output, -40 to 85 degC, 10-Pin MSOP-PowerPAD (DGQ), Green (RoHS & no Sb/Br); PartNumber: TPS62046DGQ; Manufacturer: Texas Instruments; Duty Cycle(Max)(%): 100; Iout(Max)(A): 1.2; Iq(Typ)(mA): 0.018; Preset Vout(V): 3.3; Rating: Catalog; Regulated Outputs(#): 1; SubFamily: Step-Down Regulator; Switch Current Limit(Typ)(A): 2; Synchronous Rectification: TRUE; Vin(Max)(V): 6; Vin(Min)(V): 2.5; DatasheetVersion: SLVS463B; PackageVersion: revF, Nov-2011; PackageReference: DGQ10-1675X1445TP; PackageDescription: 10-Pin PowerPAD Plastic Small Outline 0.5 mm Pitch, Exposed Pad; Supplier 1: Digi-Key; Supplier Part Number 1: 296-27023-5-ND; Supplier 2: Farnell; Supplier Part Number 2: 8457948; Supplier 3: Newark; Supplier Part Number 3: 73H4665; Supplier 4: Mouser; Supplier Part Number 4: 595-TPS62046DGQ; Eco-Plan: Green (RoHS & no Sb/Br); Topology: Buck; Vout(Max)(V): 3.3; Vout(Min)(V): 3.3; Mounting Technology: Surface Mount; Code_JEDEC: MO-187-BA-T; ComponentLink1Description: Datasheet; ComponentLink1URL: http://www.ti.com/general/docs/lit/getliterature.tsp?genericPartNumber=TPS62046&fileType=pdf; ComponentLink2Description: URL Link1; ComponentLink2URL: Samples URL:http://www.ti.com/product/tps62046#samples
footprint DGQ10-1675X1445TP_N (TSSOP, 10-Leads, Body 3x3mm, Pitch 0.5mm, Thermal Pad 1.88x1.57mm, IPC Medium Density)
footprint DGQ10-1675X1445TP_L (TSSOP, 10-Leads, Body 3x3mm, Pitch 0.5mm, Thermal Pad 1.88x1.57mm, IPC High Density)
footprint DGQ10-1675X1445TP_M (TSSOP, 10-Leads, Body 3x3mm, Pitch 0.5mm, Thermal Pad 1.88x1.57mm, IPC Low Density)
pins: 1 EN (in) "Enable. Pulling EN to ground forces the device into shutdown mode. Pulling EN to VI enables the device. EN should not be left floating and must be terminated.", 2 VIN (power) "Supply voltage input", 3 VIN (power) "Supply voltage input", 4 GND (power) "Analog ground", 5 FB "Feedback pin. Connect FB directly to the output if the fixed output voltage version is used. For the adjustable version an external resistor divider is connected to this pin. The internal voltage divider is disabled for the (See Datasheet)", 6 MODE (in) "Pulling the MODE pin high allows the device to be forced into fixed frequency operation. Pulling the MODE pin to low enables the power save mode where the device operates in fixed frequency PWM mode at high load currents and (See Datasheet)", 7 SW (power) "This is the switch pin of the converter and connected to the drain of the internal power MOSFETs", 8 SW (power) "This is the switch pin of the converter and connected to the drain of the internal power MOSFETs", 9 PGND (power) "Power ground", 10 PGND (power) "Power ground", 11 PP (power) "Exposed Thermal Pad"

## TPS62046DGQG4
designator U?
Buck Step Down Regulator with 2.5 to 6 V Input and 3.3 V Output, -40 to 85 degC, 10-Pin MSOP-PowerPAD (DGQ), Green (RoHS & no Sb/Br); PartNumber: TPS62046DGQG4; Manufacturer: Texas Instruments; Duty Cycle(Max)(%): 100; Iout(Max)(A): 1.2; Iq(Typ)(mA): 0.018; Preset Vout(V): 3.3; Rating: Catalog; Regulated Outputs(#): 1; SubFamily: Step-Down Regulator; Switch Current Limit(Typ)(A): 2; Synchronous Rectification: TRUE; Vin(Max)(V): 6; Vin(Min)(V): 2.5; DatasheetVersion: SLVS463B; PackageVersion: revF, Nov-2011; PackageReference: DGQ10-1675X1445TP; PackageDescription: 10-Pin PowerPAD Plastic Small Outline 0.5 mm Pitch, Exposed Pad; Supplier 1: Digi-Key; Supplier Part Number 1: TPS62046DGQG4-ND; Supplier 2: Newark; Supplier Part Number 2: 24K6036; Supplier 3: Mouser; Supplier Part Number 3: 595-TPS62046DGQG4; Eco-Plan: Green (RoHS & no Sb/Br); Topology: Buck; Vout(Max)(V): 3.3; Vout(Min)(V): 3.3; Mounting Technology: Surface Mount; Code_JEDEC: MO-187-BA-T; ComponentLink1Description: Datasheet; ComponentLink1URL: http://www.ti.com/general/docs/lit/getliterature.tsp?genericPartNumber=TPS62046&fileType=pdf; ComponentLink2Description: URL Link1; ComponentLink2URL: Samples URL:http://www.ti.com/product/tps62046#samples
footprint DGQ10-1675X1445TP_N (TSSOP, 10-Leads, Body 3x3mm, Pitch 0.5mm, Thermal Pad 1.88x1.57mm, IPC Medium Density)
footprint DGQ10-1675X1445TP_L (TSSOP, 10-Leads, Body 3x3mm, Pitch 0.5mm, Thermal Pad 1.88x1.57mm, IPC High Density)
footprint DGQ10-1675X1445TP_M (TSSOP, 10-Leads, Body 3x3mm, Pitch 0.5mm, Thermal Pad 1.88x1.57mm, IPC Low Density)
pins: 1 EN (in) "Enable. Pulling EN to ground forces the device into shutdown mode. Pulling EN to VI enables the device. EN should not be left floating and must be terminated.", 2 VIN (power) "Supply voltage input", 3 VIN (power) "Supply voltage input", 4 GND (power) "Analog ground", 5 FB "Feedback pin. Connect FB directly to the output if the fixed output voltage version is used. For the adjustable version an external resistor divider is connected to this pin. The internal voltage divider is disabled for the (See Datasheet)", 6 MODE (in) "Pulling the MODE pin high allows the device to be forced into fixed frequency operation. Pulling the MODE pin to low enables the power save mode where the device operates in fixed frequency PWM mode at high load currents and (See Datasheet)", 7 SW (power) "This is the switch pin of the converter and connected to the drain of the internal power MOSFETs", 8 SW (power) "This is the switch pin of the converter and connected to the drain of the internal power MOSFETs", 9 PGND (power) "Power ground", 10 PGND (power) "Power ground", 11 PP (power) "Exposed Thermal Pad"